# Altium footprint library DRP_Basic_2014.PcbLib: 82 footprints (part 2 of 6)
Each footprint in its own frame and in the unit in brackets; x right, y up, seen from the top. Pads: shape width x height; smd on the part's side, far side on the other; paste and mask are expansions set on the pad; w line width, h text height; cw(c..) or ccw(c..) is an arc to the next point about the centre after c.
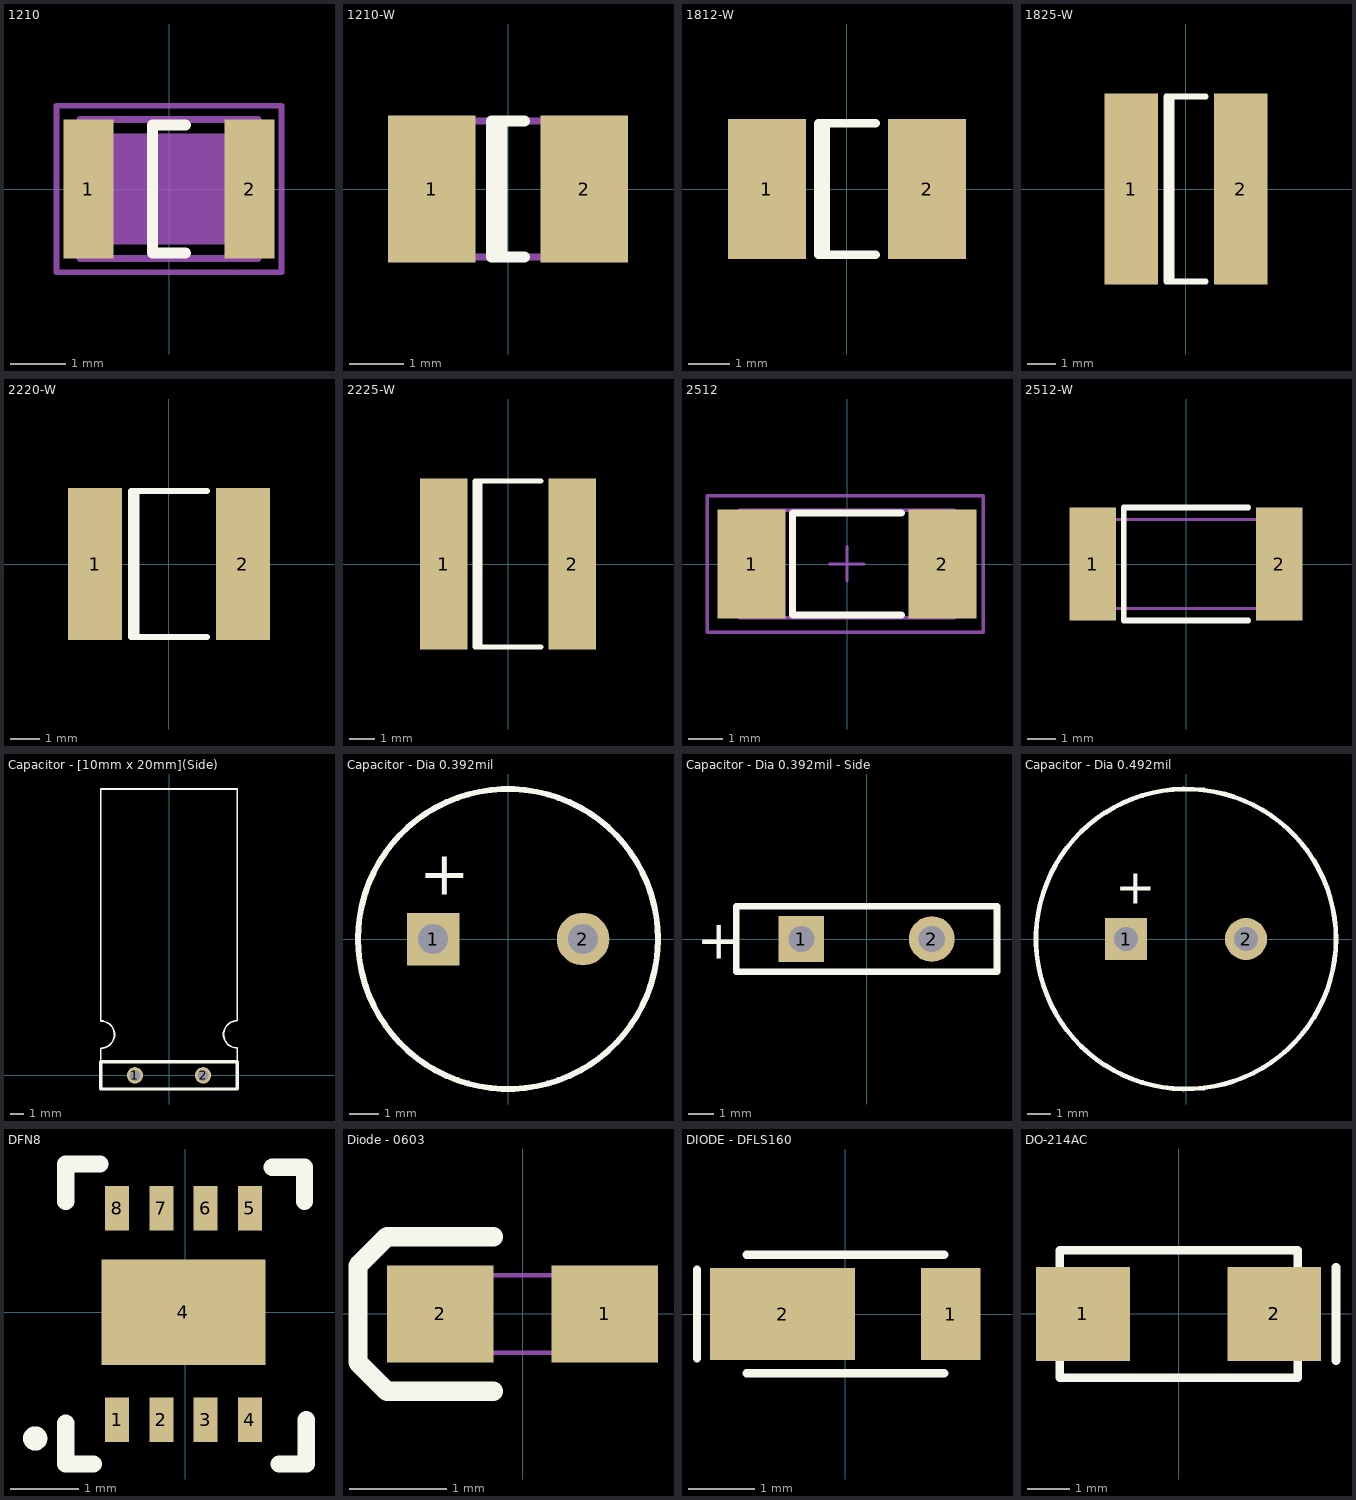
[diagram p1: the footprints below, top view; thin cyan lines are the x and y axes]

## 1210 [mm] "Surface Mount; Body 3.2 x 2.5 mm (LxW typ)"
height 2.5
pads (2):
  rect 0.9x2.5 smd: 1(-1.45,0) 2(1.45,0)
Top Overlay:
  lines w0.2: 0.3,-1.15 -0.3,-1.15 -0.3,1.15 0.3,1.15
Mechanical 1:
  rectangle: -1.25,-1 1.25,1
Mechanical 13:
  lines w0.127: -1.6,-1.25 -1.6,1.25 1.6,1.25 1.6,-1.25 -1.6,-1.25
Mechanical 15:
  lines w0.1: -0.3,0 0.3,0 ; 0,-0.3 0,0.3 ; -2.025,-1.5 2.025,-1.5 2.025,1.5 -2.025,1.5 -2.025,-1.5
3D body: height 2.5, standoff 0, extent -1.6,-1.25 1.6,1.25

## 1210-W [mm] "Chip Capacitor; Body 3.2 x 2.5 mm (LxW typ)"
height 1.7
pads (2):
  rect 1.6x2.7 smd: 1(-1.4,0) 2(1.4,0)
Top Overlay:
  lines w0.2: -0.11,-1.25 -0.11,1.25 ; 0.3,-1.25 -0.3,-1.25 -0.3,1.25 0.3,1.25
Mechanical 13:
  lines w0.127: -1.6,-1.25 1.6,-1.25 1.6,1.25 -1.6,1.25 -1.6,-1.25
3D body: height 2.5, standoff 0, extent -1.6,-1.25 1.6,1.25

## 1812-W [mm] "Chip Capacitor; Body 4.5 x 3.2 mm (LxW typ)"
height 1.7
pads (2):
  rect 1.9x3.4 smd: 1(-1.95,0) 2(1.95,0)
Top Overlay:
  lines w0.2: -0.51,-1.6 -0.51,1.6 ; 0.7,-1.6 -0.7,-1.6 -0.7,1.6 0.7,1.6

## 1825-W [mm] "Chip Capacitor; Body 4.5 x 6.4 mm (LxW typ)"
height 1.7
pads (2):
  rect 1.9x6.8 smd: 1(-1.95,0) 2(1.95,0)
Top Overlay:
  lines w0.2: -0.51,-3.3 -0.51,3.3 ; 0.7,-3.3 -0.7,-3.3 -0.7,3.3 0.7,3.3

## 2220-W [mm] "Chip Capacitor; Body 5.7 x 5.0 mm (LxW typ)"
height 1.8
pads (2):
  rect 1.85x5.2 smd: 1(-2.525,0) 2(2.525,0)
Top Overlay:
  lines w0.2: -1.11,-2.5 -1.11,2.5 ; 1.3,-2.5 -1.3,-2.5 -1.3,2.5 1.3,2.5

## 2225-W [mm] "Chip Capacitor; Body 5.6 x 6.4 mm (LxW typ)"
height 2
pads (2):
  rect 1.9x6.8 smd: 1(-2.55,0) 2(2.55,0)
Top Overlay:
  lines w0.2: -1.11,-3.3 -1.11,3.3 ; 1.3,-3.3 -1.3,-3.3 -1.3,3.3 1.3,3.3

## 2512 [mm] "Chip Capacitor, Body 2.54x1.27mm, IPC Low Density"
height 0.6
pads (2):
  rect 2x3.2 smd: 1(-2.8,0) 2(2.8,0)
Top Overlay:
  lines w0.2: 1.6,-1.5 -1.6,-1.5 -1.6,1.5 1.6,1.5
Mechanical 13:
  lines w0.1: -3.15,-1.575 -3.15,1.575 3.15,1.575 3.15,-1.575 -3.15,-1.575
Mechanical 15:
  lines w0.1: -0.5,0 0.5,0 ; 0,-0.5 0,0.5 ; -4.1,-2 -4.1,2 4,2 4,-2 -4.1,-2
3D body: height 0.6, standoff 0, extent -3.15,-1.575 3.15,1.575

## 2512-W [mil]
height 82.68
pads (2):
  rect 65x158 smd: 1(-130,0) 2(130,0)
Top Overlay:
  lines w7.87: 86.54,-78.74 -86.69,-78.74 -86.69,78.74 86.54,78.74
Mechanical 13:
  lines w3.94: -124.01,-62 -124.01,62.01 124.02,62.01 124.02,-62 -124.01,-62
3D body: height 23.62, standoff 0, extent -124.01,-62 124.02,62.01

## Capacitor - [10mm x 20mm](Side) [mm] "Electrolytic Capacitors, Radial Can on side [10mm x 20mm]"
height 10
pads (2):
  round 1.2 hole 0.8: 1(-2.5,0) 2(2.5,0)
Top Overlay:
  lines w0.127: -5,1 -5,1.992 ccw(c-5,2.992) -5,3.992 -5,21 5,21 5,4.008 ccw(c5,3.008) 5,2.008 5,1
  lines w0.254: -5,-1 -5,1 5,1 5,-1 -5,-1

## Capacitor - Dia 0.392mil [mil] "Capacitor, Electrolytic, Radial; Dia 0.392mil - Pin Spacing 200mil"
height 600
pads (2):
  rect 70x70 hole 40: 1(-100,0)
  round 70 hole 40: 2(100,0)
Top Overlay:
  circle w7.87: c0,0 r200
  text "+" at -118.11,59.06 h59.06

## Capacitor - Dia 0.392mil - Side [mil] "Capacitor, Electrolytic, Radial; Dia 0.392mil - Pin Spacing 200mil"
height 600
pads (2):
  rect 70x70 hole 40: 1(-100,0)
  round 70 hole 40: 2(100,0)
Top Overlay:
  lines w10: -200,-50 200,-50 200,50 -200,50 -200,-50
  text "+" at -260,-30 h59.06

## Capacitor - Dia 0.492mil [mil] "Capacitor, Electrolytic, Radial; Dia 0.492mil - Pin Spacing 200mil"
height 600
pads (2):
  rect 70x70 hole 40: 1(-100,0)
  round 70 hole 40: 2(100,0)
Top Overlay:
  circle w7.87: c0,0 r250
  text "+" at -118.11,59.06 h59.06

## DFN8 [mm] "3MM X 3MM microchip pkg"
pads (9):
  rect 0.35x0.65 smd: 1(-1,-1.575) 2(-0.35,-1.575) 3(0.3,-1.575) 4(0.95,-1.575) 5(0.95,1.525) 6(0.3,1.525) 7(-0.35,1.525) 8(-1,1.525)
  rect 2.4x1.55 smd paste-3: 4(-0.025,0)
Top Overlay:
  circle w0.254: c-2.2,-1.85 r0.05
  lines w0.254: -1.75,-1.625 -1.75,-2.225 -1.65,-2.225 -1.45,-2.225 -1.35,-2.225 ; -1.75,1.625 -1.75,2.175 -1.25,2.175 ; 1.275,2.125 1.45,2.125 1.75,2.125 1.75,1.625 ; 1.375,-2.225 1.775,-2.225 1.775,-1.575
Top Paste:
  rectangle: 0.127,-0.762 1.143,-0.127
  rectangle: -1.194,-0.762 -0.127,-0.076
  rectangle: 0.127,0.127 1.143,0.762
  rectangle: -1.194,0.127 -0.127,0.762
3D body: height 1, standoff 0, extent -1.524,-1.524 1.397,1.524

## Diode - 0603 [mm] "Diode: Body 1.6 x 0.8 mm (LxW typ)"
height 0.87
pads (2):
  rect 1.1x1 smd: 1(0.85,0) 2(-0.85,0)
Top Overlay:
  lines w0.2: -0.3,-0.8 -1.4,-0.8 -1.7,-0.5 -1.7,0.4 -1.7,0.5 -1.4,0.8 -0.3,0.8
Mechanical 13:
  lines w0.051: -0.8,-0.4 -0.8,0.4 0.8,0.4 0.8,-0.4 -0.8,-0.4
  text ".Designator" at -0.65,-0.1 h0.3
3D body: height 0.8, standoff 0, extent -0.8,-0.4 0.8,0.4

## DIODE - DFLS160 [mm] "PDI-123 - PowerDI 123, DFLS160  2 Leads"
height 1
pads (2):
  rect 0.9x1.4 smd: 1(1.6,0)
  rect 2.2x1.4 smd: 2(-0.95,0)
Top Overlay:
  lines w0.127: -2.25,-0.675 -2.25,0.675 ; -1.5,-0.9 1.5,-0.9 ; -1.5,0.9 1.5,0.9
3D body: height 1.25, standoff 0, extent -1.5,-0.9 1.5,0.9

## DO-214AC [mm] "DO-214AC - BZG03C diodes"
height 2.3
pads (2):
  rect 2.2x2.21 smd: 1(-2.25,0) 2(2.25,0)
Top Overlay:
  lines w0.2: -2.8,-1.1 -2.8,-1.5 2.8,-1.5 2.8,-1 ; -2.8,1 -2.8,1.5 2.8,1.5 2.8,1.1 ; 3.7,-1.1 3.7,1.1
Mechanical 13:
  circle w0.254: c-2.25,0 r0.127
  text ".Designator" at -0.8,-0.5 h0.76
3D body: height 2.3, standoff 0, extent -2.8,-1.5 2.8,1.5